# Altium schematic symbol library Memory.SchLib: 3 symbols
Pins are listed as number, name and electrical type; pins without a type are passive.

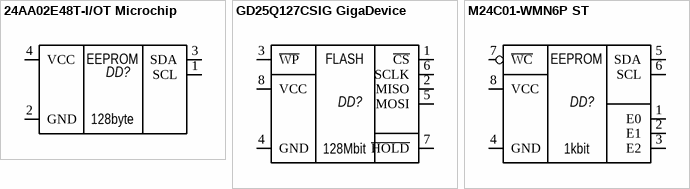
[diagram p0: symbols 24AA02E48T-I/OT Microchip to M24C01-WMN6P ST]

## 24AA02E48T-I/OT Microchip
designator DD?  (value not drawn)
footprint SOT23-5
pins: 1 SCL, 2 GND, 3 SDA, 4 VCC
text: EEPROM; 128byte

## GD25Q127CSIG GigaDevice
designator DD?  (value not drawn)
128M-bit Serial Flash
footprint SOIC-8/150mil
pins: 1 ~{CS}, 2 MISO, 3 ~{WP}, 4 GND, 5 MOSI, 6 SCLK, 7 ~{HOLD}, 8 VCC
text: FLASH; 128Mbit

## M24C01-WMN6P ST
designator DD?  (value not drawn)
EEPROM 1КБит, напряжение питания 2.5..5.5Вольт
footprint SOIC-8/150mil
pins: 1 E0, 2 E1, 3 E2, 4 GND, 5 SDA, 6 SCL, 7 ~{WC}, 8 VCC
text: EEPROM; 1kbit